# Altium footprint library Pcblib_20110825.Pcblib: 408 footprints (part 2 of 26)
Each footprint in its own frame and in the unit in brackets; x right, y up, seen from the top. Pads: shape width x height; smd on the part's side, far side on the other; paste and mask are expansions set on the pad; w line width, h text height; cw(c..) or ccw(c..) is an arc to the next point about the centre after c.
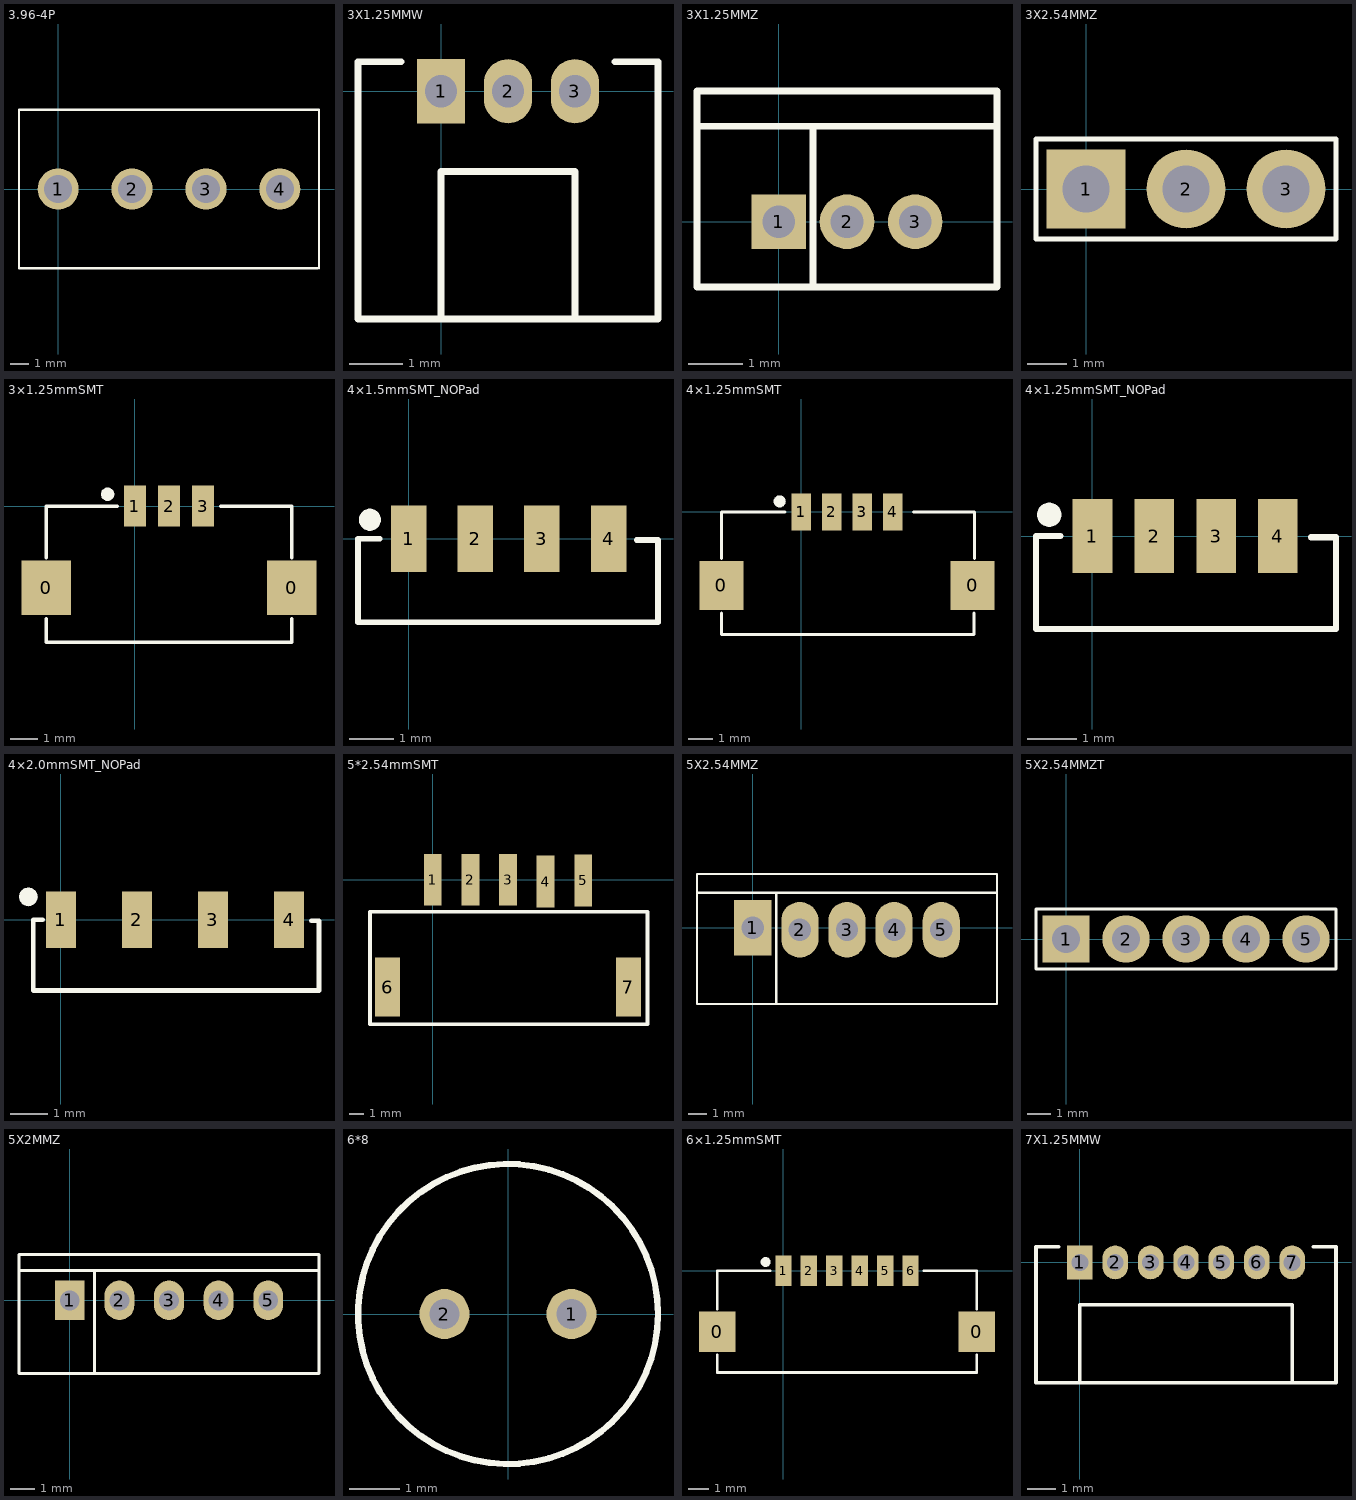
[diagram p1: the footprints below, top view; thin cyan lines are the x and y axes]

## 3.96-4P [mm]
pads (4):
  round 2.2 hole 1.5: 1(0,0) 2(3.96,0) 3(7.92,0) 4(11.88,0)
TopOverlay:
  lines w0.127: -2.1,4.25 -2.1,0 -2.1,-4.25 13.9,-4.25 ; -2.083,4.242 13.917,4.242 ; 13.98,-4.25 13.98,4.25

## 3X1.25MMW [mm]
pads (3):
  rect 0.9x1.2 hole 0.6: 1(0,0)
  oval 0.9x1.2 hole 0.6: 2(1.25,0) 3(2.5,0)
TopOverlay:
  lines w0.127: -0.75,0.55 -1.55,0.55 -1.55,-4.25 4.05,-4.25 4.05,0.55 3.25,0.55 ; 0,-4.25 0,-1.5 2.5,-1.5 2.5,-4.25

## 3X1.25MMZ [mm]
pads (3):
  rect 1x1 hole 0.6: 1(0,0)
  round 1 hole 0.6: 2(1.25,0) 3(2.5,0)
TopOverlay:
  lines w0.127: -1.5,1.75 4,1.75 ; 0.625,-1.2 0.625,1.75 ; -1.5,-1.2 4,-1.2 4,2.4 -1.5,2.4 -1.5,-1.2

## 3X2.54MMZ [mm]
pads (3):
  rect 2x2 hole 1.2: 1(0,0)
  round 2 hole 1.2: 2(2.54,0) 3(5.08,0)
TopOverlay:
  lines w0.127: -1.27,-1.27 -1.27,1.27 6.35,1.27 6.35,-1.27 -1.27,-1.27

## 3×1.25mmSMT [mm]
pads (6):
  rect 1.8x2 smd: 0(-3.25,-3) 0(5.75,-3)
  rect 0.8x1.5 smd: 1(0,0) 2(1.25,0) 3(2.5,0)
  round 0.5 on Top Overlay: ""(-1,0.432)
TopOverlay:
  lines w0.127: -3.25,-4.13 -3.25,-5 5.75,-5 5.75,-4.13 ; -3.25,-1.895 -3.25,0 -0.65,0 ; 3.15,0 5.75,0 5.75,-1.895

## 4×1.5mmSMT_NOPad [mm]
pads (5):
  rect 0.8x1.5 smd: 1(0,0) 2(1.5,0) 3(3,0) 4(4.5,0)
  round 0.5 on Top Overlay: ""(-0.875,0.432)
TopOverlay:
  lines w0.127: -0.65,0 -1.143,0 -1.143,-1.88 5.613,-1.88 5.613,-0.025 5.131,-0.025

## 4×1.25mmSMT [mm]
pads (7):
  rect 1.8x2 smd: 0(-3.25,-3) 0(7,-3)
  rect 0.8x1.5 smd: 1(0,0) 2(1.25,0) 3(2.5,0) 4(3.75,0)
  round 0.5 on Top Overlay: ""(-0.875,0.432)
TopOverlay:
  lines w0.127: -3.25,-4.13 -3.25,-5 7.061,-5 7.061,-4.13 ; -3.25,-1.895 -3.25,0 -0.65,0 ; 4.589,0 7.087,0 7.087,-1.895

## 4×1.25mmSMT_NOPad [mm]
pads (5):
  rect 0.8x1.5 smd: 1(0,0) 2(1.25,0) 3(2.5,0) 4(3.75,0)
  round 0.5 on Top Overlay: ""(-0.875,0.432)
TopOverlay:
  lines w0.127: -0.65,0 -1.143,0 -1.143,-1.88 4.928,-1.88 4.928,-0.025 4.42,-0.025

## 4×2.0mmSMT_NOPad [mm]
pads (5):
  rect 0.8x1.5 smd: 1(0,0) 2(2.02,0) 3(4.041,0) 4(6.061,0)
  round 0.5 on Top Overlay: ""(-0.864,0.61)
TopOverlay:
  lines w0.127: -0.483,0 -0.737,0 -0.737,-1.88 6.858,-1.88 6.858,-0.025 6.655,-0.025

## 5*2.54mmSMT [mm]
pads (7):
  rect 1.2x3.5 smd: 1(0,0) 2(2.54,0) 3(5.08,0) 4(7.62,-0.127) 5(10.16,-0.051)
  rect 1.7x4 smd: 6(-3.05,-7.25) 7(13.21,-7.25)
TopOverlay:
  lines w0.254: -4.242,-9.754 -4.242,-2.159 14.503,-2.159 14.503,-9.754 -4.242,-9.754

## 5X2.54MMZ [mm]
pads (5):
  rect 2x3 hole 1.2: 1(0,0)
  oval 2x3 hole 1.2: 2(2.54,-0.1) 3(5.08,-0.1) 4(7.62,-0.1) 5(10.16,-0.1)
TopOverlay:
  lines w0.127: -3,1.9 13.16,1.9 ; 1.27,-4.1 1.27,1.9 ; -3,-4.1 13.16,-4.1 13.16,2.9 -3,2.9 -3,-4.1

## 5X2.54MMZT [mm]
pads (5):
  rect 2x2 hole 1.2: 1(0,0)
  round 2 hole 1.2: 2(2.54,0) 3(5.08,0) 4(7.62,0) 5(10.16,0)
TopOverlay:
  lines w0.127: -1.27,-1.27 11.43,-1.27 11.43,1.27 -1.27,1.27 -1.27,-1.27

## 5X2MMZ [mm]
pads (5):
  rect 1.2x1.6 hole 0.8: 1(0,0)
  oval 1.2x1.6 hole 0.8: 2(2,0) 3(4,0) 4(6,0) 5(8,0)
TopOverlay:
  lines w0.127: -2.05,1.2 10.05,1.2 ; 1,-2.95 1,1.2 ; -2.05,-2.95 10.05,-2.95 10.05,1.85 -2.05,1.85 -2.05,-2.95

## 6*8 [mm]
pads (2):
  round 1 hole 0.6: 1(1.27,0) 2(-1.27,0)
TopOverlay:
  circle w0.127: c0,0 r3

## 6×1.25mmSMT [mm]
pads (9):
  rect 1.8x2 smd: 0(-3.25,-3) 0(9.5,-3)
  rect 0.8x1.5 smd: 1(0,0) 2(1.25,0) 3(2.5,0) 4(3.75,0) 5(5,0) 6(6.25,0)
  round 0.5 on Top Overlay: ""(-0.875,0.432)
TopOverlay:
  lines w0.127: -3.25,-4.13 -3.25,-5 9.5,-5 9.5,-4.13 ; -3.25,-1.895 -3.25,0 -0.65,0 ; 6.9,0 9.5,0 9.5,-1.895

## 7X1.25MMW [mm]
pads (7):
  rect 0.9x1.2 hole 0.6: 1(0,0)
  oval 0.9x1.2 hole 0.6: 2(1.25,0) 3(2.5,0) 4(3.75,0) 5(5,0) 6(6.25,0) 7(7.5,0)
TopOverlay:
  lines w0.127: -0.75,0.55 -1.55,0.55 -1.55,-4.25 9.05,-4.25 9.05,0.55 8.25,0.55 ; 0,-4.25 0,-1.5 7.5,-1.5 7.5,-4.25